# Altium schematic symbol library LP2950ACZ.SchLib: 1 symbol
Pins are listed as number, name and electrical type; pins without a type are passive.

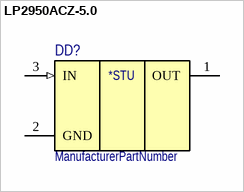
[diagram p0: symbol LP2950ACZ-5.0]

## LP2950ACZ-5.0
designator DD?  (value not drawn)
ManufacturerPartNumber: ManufacturerPartNumber
pins: 1 OUT (power), 2 GND (power), 3 IN (in)
text: *STU